# Altium footprint library Communication.PcbLib: 6 footprints
Each footprint in its own frame and in the unit in brackets; x right, y up, seen from the top. Pads: shape width x height; smd on the part's side, far side on the other; paste and mask are expansions set on the pad; w line width, h text height; cw(c..) or ccw(c..) is an arc to the next point about the centre after c.
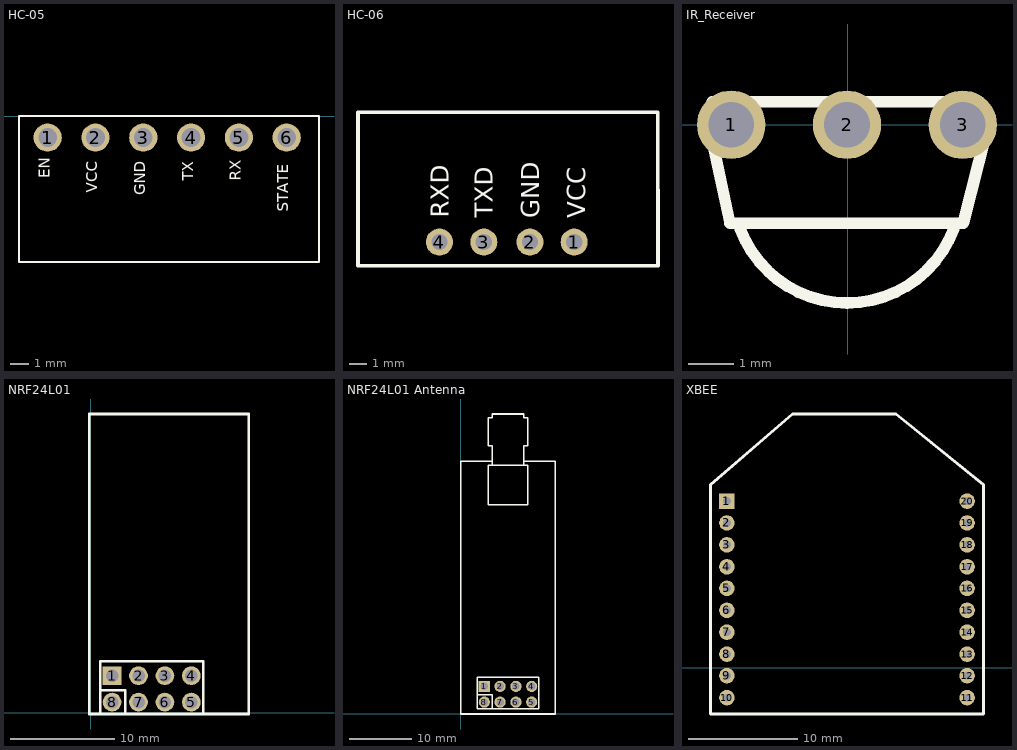
[diagram p0: the footprints below, top view; thin cyan lines are the x and y axes]

## HC-05 [mm]
pads (6):
  round 1.5 hole 1: 1(10.728,-1.137) 2(13.268,-1.137) 3(15.808,-1.137) 4(18.348,-1.137) 5(20.888,-1.137) 6(23.428,-1.137)
Top Overlay:
  lines w0.1: 9.204,-7.741 25.146,-7.741 25.146,0 9.204,0 9.204,-7.741
  text "VCC" at 13.578,-4.064 h1
  text "EN" at 11.049,-3.302 h1
  text "STATE" at 23.737,-5.08 h1
  text "RX" at 21.209,-3.429 h1
  text "TX" at 18.669,-3.429 h1
  text "GND" at 16.117,-4.191 h1
3D body "HC-05.STEP": height 37.26, standoff -5.57, extent 9.145,-7.689 25.145,-0.889

## HC-06 [mil]
pads (4):
  round 60 hole 36: 1(868.94,261.76) 2(770.54,261.76) 3(668.14,261.76) 4(569.74,261.76)
Top Overlay:
  lines w7.87: 388.94,208.94 388.94,550 1054.01,550 1054.91,208.94 388.94,208.94
  text "VCC" at 893.22,314.85 h39.37
  text "GND" at 791.02,314.86 h39.37
  text "TXD" at 688.42,315.46 h39.37
  text "RXD" at 590.02,315.46 h39.37
3D body "HC-06.step": height 1476.38, standoff -245.08, extent 385.35,247.05 1054.65,543.11

## IR_Receiver [mm]
pads (3):
  round 1.5 hole 1: 1(-2.553,0.002) 2(-0.013,0.002) 3(2.527,0.002)
Top Overlay:
  lines w0.254: -2.579,-2.161 -3.065,0.117 -2.966,0.508 2.888,0.508 3.05,-0.132 2.537,-2.157 1.968,-2.157 -2.045,-2.157 -2.528,-2.157 ; -2.354,-2.286 ccw(c-0.013,-1.408) 2.328,-2.286
3D body "IR_receiver.STEP": height 9, standoff -21, extent -2.89,-4.318 2.89,0.482

## NRF24L01 [mm]
pads (8):
  rect 1.8x1.8 hole 1.2: 1(2.035,3.556)
  round 1.8 hole 1.2: 2(4.572,3.556) 3(7.112,3.556) 4(9.652,3.556) 5(9.652,1.016) 6(7.112,1.016) 7(4.572,1.016) 8(2.032,1.016)
Top Overlay:
  lines w0.254: 0.889,2.159 3.302,2.147 3.302,-0.127 ; -0.148,-0.124 15.152,-0.124 15.152,28.702 -0.148,28.702 -0.148,-0.124 ; 0.889,-0.127 0.889,4.953 10.795,4.953 10.795,-0.127 0.889,-0.127
3D body "radio.STEP": height 7.1, standoff -5.8, extent -0.03,-0.124 15.27,28.826

## NRF24L01 Antenna [mm]
pads (8):
  rect 1.8x1.8 hole 1.2: 1(3.815,4.396)
  round 1.8 hole 1.2: 2(6.355,4.396) 3(8.895,4.396) 4(11.435,4.396) 5(11.435,1.856) 6(8.895,1.856) 7(6.355,1.856) 8(3.815,1.856)
Top Overlay:
  lines w0.254: 2.664,3.048 5.077,3.036 5.077,0.762 ; 5.085,39.956 10.165,39.956 ; 5.085,39.956 5.085,40.591 ; 5.085,39.956 4.45,39.956 4.45,33.606 10.8,33.606 10.8,39.956 10.165,39.956 ; 5.085,40.591 0.005,40.591 0.005,-0.049 15.245,-0.049 15.245,40.591 10.165,40.591 ; 5.085,40.591 5.085,43.131 4.45,43.131 4.45,47.576 5.085,47.576 5.085,48.211 10.165,48.211 10.165,47.576 10.8,47.576 10.8,43.131 10.165,43.131 10.165,40.591 ; 10.165,39.956 10.165,40.591 ; 2.664,0.762 12.57,0.762 12.571,5.842 2.664,5.842 2.665,0.762
3D body "NRF24L01_Antenna.STEP": height 93.05, standoff -5.64, extent -0.005,-0.254 15.245,73.711

## XBEE [mil] "XBEE"
pads (20):
  rect 56x56 hole 27.6: 1(655.72,600.83)
  round 56 hole 27.6: 2(655.72,521.83) 3(655.72,442.83) 4(655.72,363.83) 5(655.72,285.83) 6(655.72,206.83) 7(655.72,127.83) 8(655.72,48.83) 9(655.72,-29.17) 10(655.72,-108.17) 11(1521.72,-108.17) 12(1521.72,-29.17) 13(1521.72,48.83) 14(1521.72,127.83) 15(1521.72,206.83) 16(1521.72,285.83) 17(1521.72,363.83) 18(1521.72,442.83) 19(1521.72,521.83) 20(1521.72,600.83)
Top Overlay:
  lines w10: 596.72,-167.17 596.72,659.83 891.72,914.83 1265.72,914.83 1580.72,659.83 1580.72,-167.17 596.72,-167.17
3D body "XBEE.STEP": height 215.15, standoff -220.85, extent 610,-180 1570,907